# EAGLE library part ADIS_EVAL_16PIN_2MM (library ADI_iSensor_Libraries)
ADIS 16-Pin Evaluation Header (2mm) This footprint is designed to mimic the 16-pin, 2mm header commonly found on iSensor coupon boards, evaluation boards, and breakout boards. You are welcome to use this library for commercial purposes. For attribution, I ask that you reach out by sending me a link to the product being sold. My e-mail address is: juan@highcurrent.io
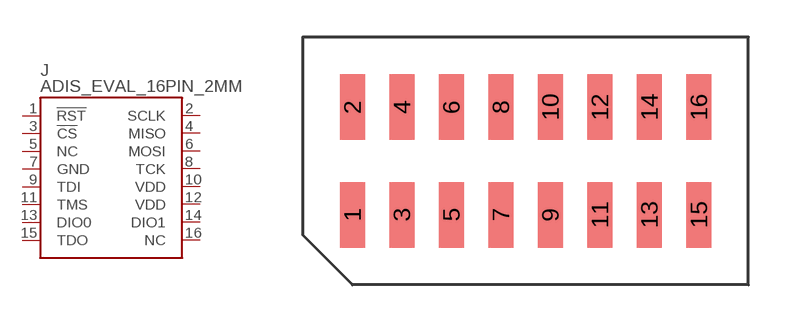
[diagram p4: symbol with the pads of A3-16PA-2SV(71)-TOP; footprint A3-16PA-2SV(71)-TOP]

Designator prefix J

## ADIS_EVAL_16PIN_2MM  [A3-16PA-2SV(71)-TOP]
1  !RST
2  SCLK
3  !CS
4  MISO
5  NC
6  MOSI
7  GND
8  TCK
9  TDI
10  VDD
11  TMS
12  VDD
13  DIO0
14  DIO1
15  TDO
16  NC

## Footprint A3-16PA-2SV(71)-TOP (pad centres in mm)
smd 1 x 2.65: 1 -7,-2.225; 2 -7,2.125; 3 -5,-2.225; 4 -5,2.125; 5 -3,-2.225; 6 -3,2.125; 7 -1,-2.225; 8 -1,2.125; 9 1,-2.225; 10 1,2.125; 11 3,-2.225; 12 3,2.125; 13 5,-2.225; 14 5,2.125; 15 7,-2.225; 16 7,2.125